# Altium footprint library 4700uF_50V.PCBLIB: 1 footprints
Each footprint in its own frame and in the unit in brackets; x right, y up, seen from the top. Pads: shape width x height; smd on the part's side, far side on the other; paste and mask are expansions set on the pad; w line width, h text height; cw(c..) or ccw(c..) is an arc to the next point about the centre after c.
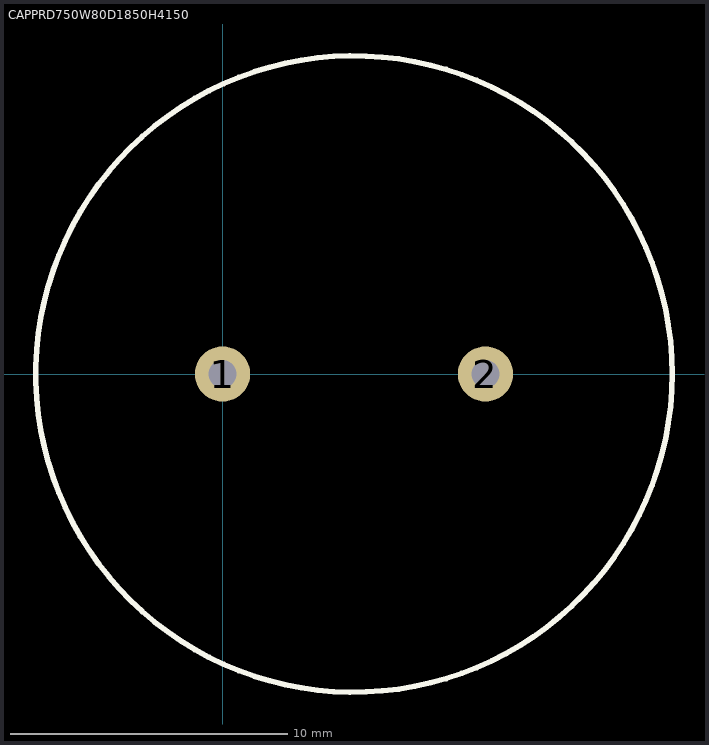
[diagram p0: the footprint, top view; thin cyan lines are the x and y axes]

## CAPPRD750W80D1850H4150 [mm]
pads (2):
  round 2 hole 1: 1(0,0)
  round 2 / inner round 1.524 / far side round 1.5 hole 1: 2(9.5,0)
Top Overlay:
  circle w0.2: c4.75,0 r11.5